# EAGLE library part NRF52840-CKAA-R7 (library NRF52840-CKAA-R7)
Advanced multi-protocol SoC su Check availability <https://pricing.snapeda.com/parts/NRF52840-CKAA-R7/Nordic%20Semiconductors/view-part?ref=eda>
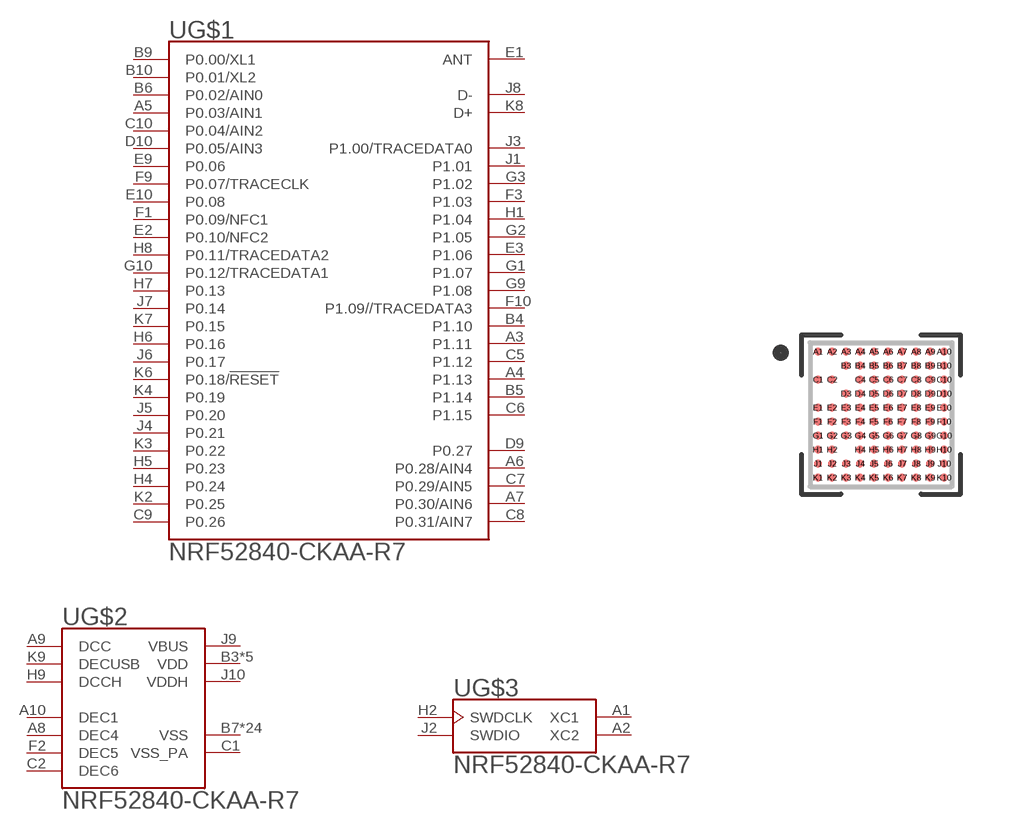
[diagram p0: symbol with the pads of BGA94N35P10X10_360X354X51N; footprint BGA94N35P10X10_360X354X51N]

Designator prefix U; gates G$1=NRF52840-CKAA-R7_SECTION1 G$2=NRF52840-CKAA-R7_SECTION2 G$3=NRF52840-CKAA-R7_SRCTION3

## NRF52840-CKAA-R7 (Availability: In Stock; Description: IC RF TxRx + MCU 802.15.4, Bluetooth Bluetooth v5.0, Thread, Zigbee® 2.4GHz 93-UFBGA, WLCSP; MF: Nordic Semiconductors; MP: NRF52840-CKAA-R7; Package: None; Price: None; Purchase-URL: https://pricing.snapeda.com/search/part/NRF52840-CKAA-R7/?ref=eda)  [BGA94N35P10X10_360X354X51N]
A1  G$3:XC1  in
A2  G$3:XC2  in
A3  G$1:P1.11
A4  G$1:P1.13
A5  G$1:P0.03/AIN1
A6  G$1:P0.28/AIN4
A7  G$1:P0.30/AIN6
A8  G$2:DEC4  pwr
A9  G$2:DCC  pwr
A10  G$2:DEC1  pwr
B3  G$2:VDD  pwr
B4  G$1:P1.10
B5  G$1:P1.14
B6  G$1:P0.02/AIN0
B7  G$2:VSS  pwr
B8  G$2:VDD  pwr
B9  G$1:P0.00/XL1
B10  G$1:P0.01/XL2
C1  G$2:VSS_PA  pwr
C2  G$2:DEC6  pwr
C4  G$2:VSS  pwr
C5  G$1:P1.12
C6  G$1:P1.15
C7  G$1:P0.29/AIN5
C8  G$1:P0.31/AIN7
C9  G$1:P0.26
C10  G$1:P0.04/AIN2
D3  G$2:VSS  pwr
D4  G$2:VSS  pwr
D5  G$2:VSS  pwr
D6  G$2:VSS  pwr
D7  G$2:VSS  pwr
D8  G$2:VSS  pwr
D9  G$1:P0.27
D10  G$1:P0.05/AIN3
E1  G$1:ANT
E2  G$1:P0.10/NFC2
E3  G$1:P1.06
E4  G$2:VSS  pwr
E5  G$2:VSS  pwr
E6  G$2:VSS  pwr
E7  G$2:VSS  pwr
E8  G$2:VSS  pwr
E9  G$1:P0.06
E10  G$1:P0.08
F1  G$1:P0.09/NFC1
F2  G$2:DEC5  pwr
F3  G$1:P1.03
F4  G$2:VSS  pwr
F5  G$2:VSS  pwr
F6  G$2:VSS  pwr
F7  G$2:VSS  pwr
F8  G$2:VSS  pwr
F9  G$1:P0.07/TRACECLK
F10  G$1:P1.09//TRACEDATA3
G1  G$1:P1.07
G2  G$1:P1.05
G3  G$1:P1.02
G4  G$2:VSS  pwr
G5  G$2:VSS  pwr
G6  G$2:VSS  pwr
G7  G$2:VSS  pwr
G8  G$2:VSS  pwr
G9  G$1:P1.08
G10  G$1:P0.12/TRACEDATA1
H1  G$1:P1.04
H2  G$3:SWDCLK  in
H4  G$1:P0.24
H5  G$1:P0.23
H6  G$1:P0.16
H7  G$1:P0.13
H8  G$1:P0.11/TRACEDATA2
H9  G$2:DCCH  pwr
H10  G$2:VDD  pwr
J1  G$1:P1.01
J2  G$3:SWDIO
J3  G$1:P1.00/TRACEDATA0
J4  G$1:P0.21
J5  G$1:P0.20
J6  G$1:P0.17
J7  G$1:P0.14
J8  G$1:D-
J9  G$2:VBUS  pwr
J10  G$2:VDDH  pwr
K1  G$2:VDD  pwr
K2  G$1:P0.25
K3  G$1:P0.22
K4  G$1:P0.19
K5  G$2:VDD  pwr
K6  G$1:P0.18/!RESET
K7  G$1:P0.15
K8  G$1:D+
K9  G$2:DECUSB  pwr
K10  G$2:VSS  pwr

## Footprint BGA94N35P10X10_360X354X51N (pad centres in mm)
smd 0.2 x 0.2: A1 -1.575,1.575; A2 -1.225,1.575; A3 -0.875,1.575; A4 -0.525,1.575; A5 -0.175,1.575; A6 0.175,1.575; A7 0.525,1.575; A8 0.875,1.575; A9 1.225,1.575; A10 1.575,1.575; B3 -0.875,1.225; B4 -0.525,1.225; B5 -0.175,1.225; B6 0.175,1.225; B7 0.525,1.225; B8 0.875,1.225; B9 1.225,1.225; B10 1.575,1.225; C1 -1.575,0.875; C2 -1.225,0.875; C4 -0.525,0.875; C5 -0.175,0.875; C6 0.175,0.875; C7 0.525,0.875; C8 0.875,0.875; C9 1.225,0.875; C10 1.575,0.875; D3 -0.875,0.525; D4 -0.525,0.525; D5 -0.175,0.525; D6 0.175,0.525; D7 0.525,0.525; D8 0.875,0.525; D9 1.225,0.525; D10 1.575,0.525; E1 -1.575,0.175; E2 -1.225,0.175; E3 -0.875,0.175; E4 -0.525,0.175; E5 -0.175,0.175; E6 0.175,0.175; E7 0.525,0.175; E8 0.875,0.175; E9 1.225,0.175; E10 1.575,0.175; F1 -1.575,-0.175; F2 -1.225,-0.175; F3 -0.875,-0.175; F4 -0.525,-0.175; F5 -0.175,-0.175; F6 0.175,-0.175; F7 0.525,-0.175; F8 0.875,-0.175; F9 1.225,-0.175; F10 1.575,-0.175; G1 -1.575,-0.525; G2 -1.225,-0.525; G3 -0.875,-0.525; G4 -0.525,-0.525; G5 -0.175,-0.525; G6 0.175,-0.525; G7 0.525,-0.525; G8 0.875,-0.525; G9 1.225,-0.525; G10 1.575,-0.525; H1 -1.575,-0.875; H2 -1.225,-0.875; H4 -0.525,-0.875; H5 -0.175,-0.875; H6 0.175,-0.875; H7 0.525,-0.875; H8 0.875,-0.875; H9 1.225,-0.875; H10 1.575,-0.875; J1 -1.575,-1.225; J2 -1.225,-1.225; J3 -0.875,-1.225; J4 -0.525,-1.225; J5 -0.175,-1.225; J6 0.175,-1.225; J7 0.525,-1.225; J8 0.875,-1.225; J9 1.225,-1.225; J10 1.575,-1.225; K1 -1.575,-1.575; K2 -1.225,-1.575; K3 -0.875,-1.575; K4 -0.525,-1.575; K5 -0.175,-1.575; K6 0.175,-1.575; K7 0.525,-1.575; K8 0.875,-1.575; K9 1.225,-1.575; K10 1.575,-1.575